# EAGLE library part LM5122 (library LM5122)
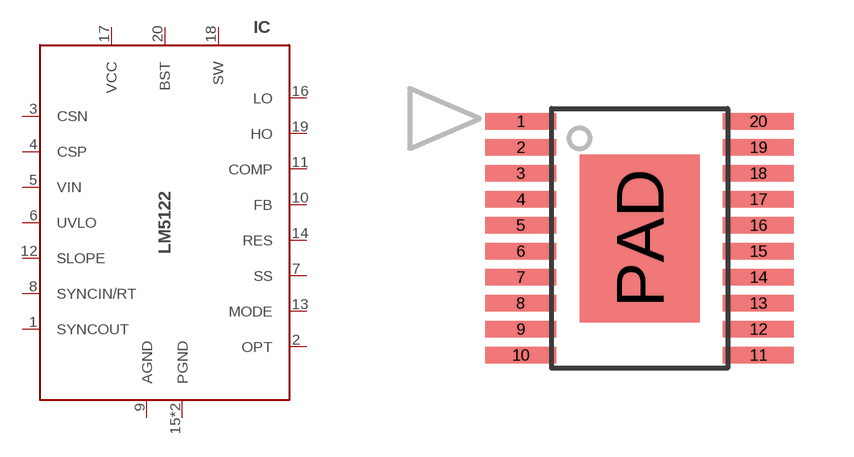
[diagram p0: symbol with the pads of HTSSOP-20; footprint HTSSOP-20]

Designator prefix IC

## LM5122MH/NOPB  [HTSSOP-20]
1  SYNCOUT  out
2  OPT
3  CSN
4  CSP
5  VIN  pwr
6  UVLO
7  SS
8  SYNCIN/RT
9  AGND  pwr
10  FB
11  COMP  out
12  SLOPE
13  MODE
14  RES
15  PGND  pwr
16  LO  out
17  VCC  pwr
18  SW
19  HO  out
20  BST
PAD  PGND  pwr

## Footprint HTSSOP-20 (pad centres in mm)
smd 1.78 x 0.42: 1 -2.97,2.925; 2 -2.97,2.275; 3 -2.97,1.625; 4 -2.97,0.975; 5 -2.97,0.325; 6 -2.97,-0.325; 7 -2.97,-0.975; 8 -2.97,-1.625; 9 -2.97,-2.275; 10 -2.97,-2.925; 11 2.97,-2.925; 12 2.97,-2.275; 13 2.97,-1.625; 14 2.97,-0.975; 15 2.97,-0.325; 16 2.97,0.325; 17 2.97,0.975; 18 2.97,1.625; 19 2.97,2.275; 20 2.97,2.925
smd 3 x 4.2: PAD 0,0